# Altium schematic symbol library BK1608HS601-T.SCHLIB: 1 symbol
Pins are listed as number, name and electrical type; pins without a type are passive.

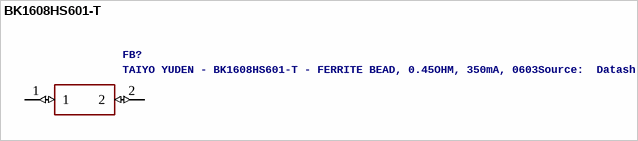
[diagram p0: symbol BK1608HS601-T]

## BK1608HS601-T
designator FB?, comment TAIYO YUDEN - BK1608HS601-T - FERRITE BEAD, 0.45OHM, 350mA, 0603Source:  Datasheet
GateName_1: G$1; SymbolName_1: BK1608HS601-T; LibraryName: BK1608HS601-T; DeviceSetName: BK1608HS601-T; Package: BEADC1608X95N; Manufacturer_Name: TAIYO YUDEN; Manufacturer_Part_Number: BK1608HS601-T; Arrow_Part_Number: BK1608HS601-T; Description: TAIYO YUDEN - BK1608HS601-T - FERRITE BEAD, 0.45OHM, 350mA, 0603; Height: 0.95mm
footprint BEADC1608X95N
pins: 1 (io), 2 (io)